# EAGLE library part 6SERVO (library Jordan Connectors)
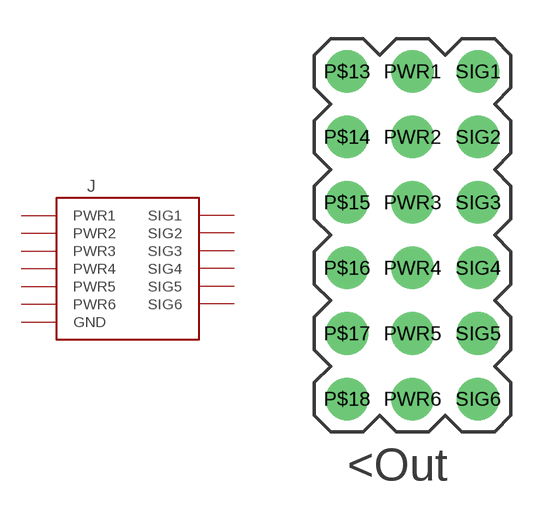
[diagram p1: symbol with the pads of 6SERVO; footprint 6SERVO]

Designator prefix J

## 6SERVO  [6SERVO]
P$13  GND
P$14  GND
P$15  GND
P$16  GND
P$17  GND
P$18  GND
PWR1  PWR1
PWR2  PWR2
PWR3  PWR3
PWR4  PWR4
PWR5  PWR5
PWR6  PWR6
SIG1  SIG1
SIG2  SIG2
SIG3  SIG3
SIG4  SIG4
SIG5  SIG5
SIG6  SIG6

## Footprint 6SERVO (pad centres in mm)
drill 1.1: P$13 -2.54,7.62; P$14 -2.54,5.08; P$15 -2.54,2.54; P$16 -2.54,0; P$17 -2.54,-2.54; P$18 -2.54,-5.08; PWR1 0,7.62; PWR2 0,5.08; PWR3 0,2.54; PWR4 0,0; PWR5 0,-2.54; PWR6 0,-5.08; SIG1 2.54,7.62; SIG2 2.54,5.08; SIG3 2.54,2.54; SIG4 2.54,0; SIG5 2.54,-2.54; SIG6 2.54,-5.08